# Altium integrated library Diodes.IntLib: 1 symbol
Pins are listed as number, name and electrical type; pins without a type are passive.

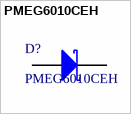
[diagram p0: symbol PMEG6010CEH]

## PMEG6010CEH
designator D?
60 V 1A Surface Mount SOD-123F; Manufacturer: Nexperia USA Inc; Diode Capacitance: 68pF@1V, 1MHz; Forward Voltage: 570mV; Reverse Current: 50µA@60V; Reverse Voltage: 60V; Manufacturer Part Number: PMEG6010CEH; Category: Schottky Diode; Datasheet: https://assets.nexperia.com/documents/data-sheet/PMEG6010CEH.pdf; Eco Plan: -; Forward Current: 1A; Operating Temperature - Junction: 150°C (Max); Ratings: -; Series: -; Supplier 1: Digi-Key; Supplier Part Number 1: 1727-3848-1-ND
footprint PMEG6010CEH (60 V, 1 A very low VF Schottky barrier rectifier)
simulation model PMEG6010CEH (Model Description)
pins: A "Anode", K "Cathode"